# EAGLE library part B9A (library MISC)
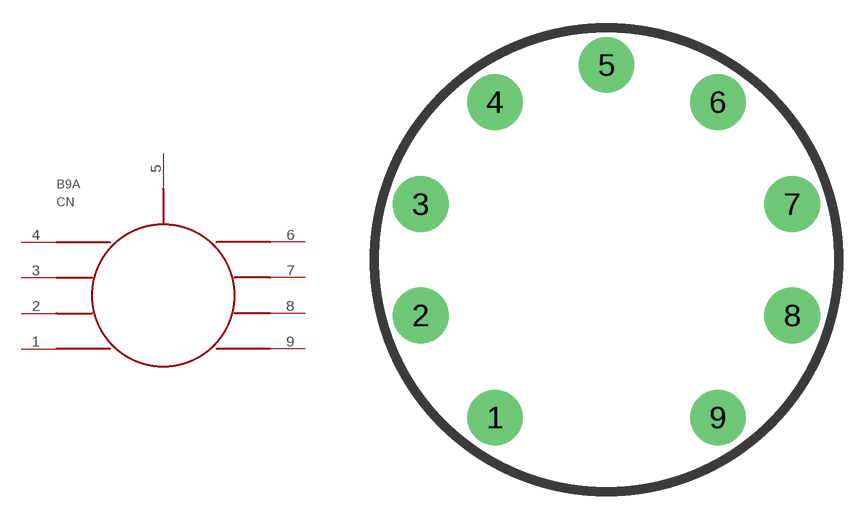
[diagram p2: symbol with the pads of B9A_TH; footprint B9A_TH]

Designator prefix CN

## B9A  [B9A_TH]
1  1
2  2
3  3
4  4
5  5
6  6
7  7
8  8
9  9

## Footprint B9A_TH (pad centres in mm)
drill 2: 1 -6,-8.5; 2 -10,-3; 3 -10,3; 4 -6,8.5; 5 0,10.5; 6 6,8.5; 7 10,3; 8 10,-3; 9 6,-8.5